# Altium footprint library Connector.PcbLib: 170 footprints (part 11 of 11)
Each footprint in its own frame and in the unit in brackets; x right, y up, seen from the top. Pads: shape width x height; smd on the part's side, far side on the other; paste and mask are expansions set on the pad; w line width, h text height; cw(c..) or ccw(c..) is an arc to the next point about the centre after c.
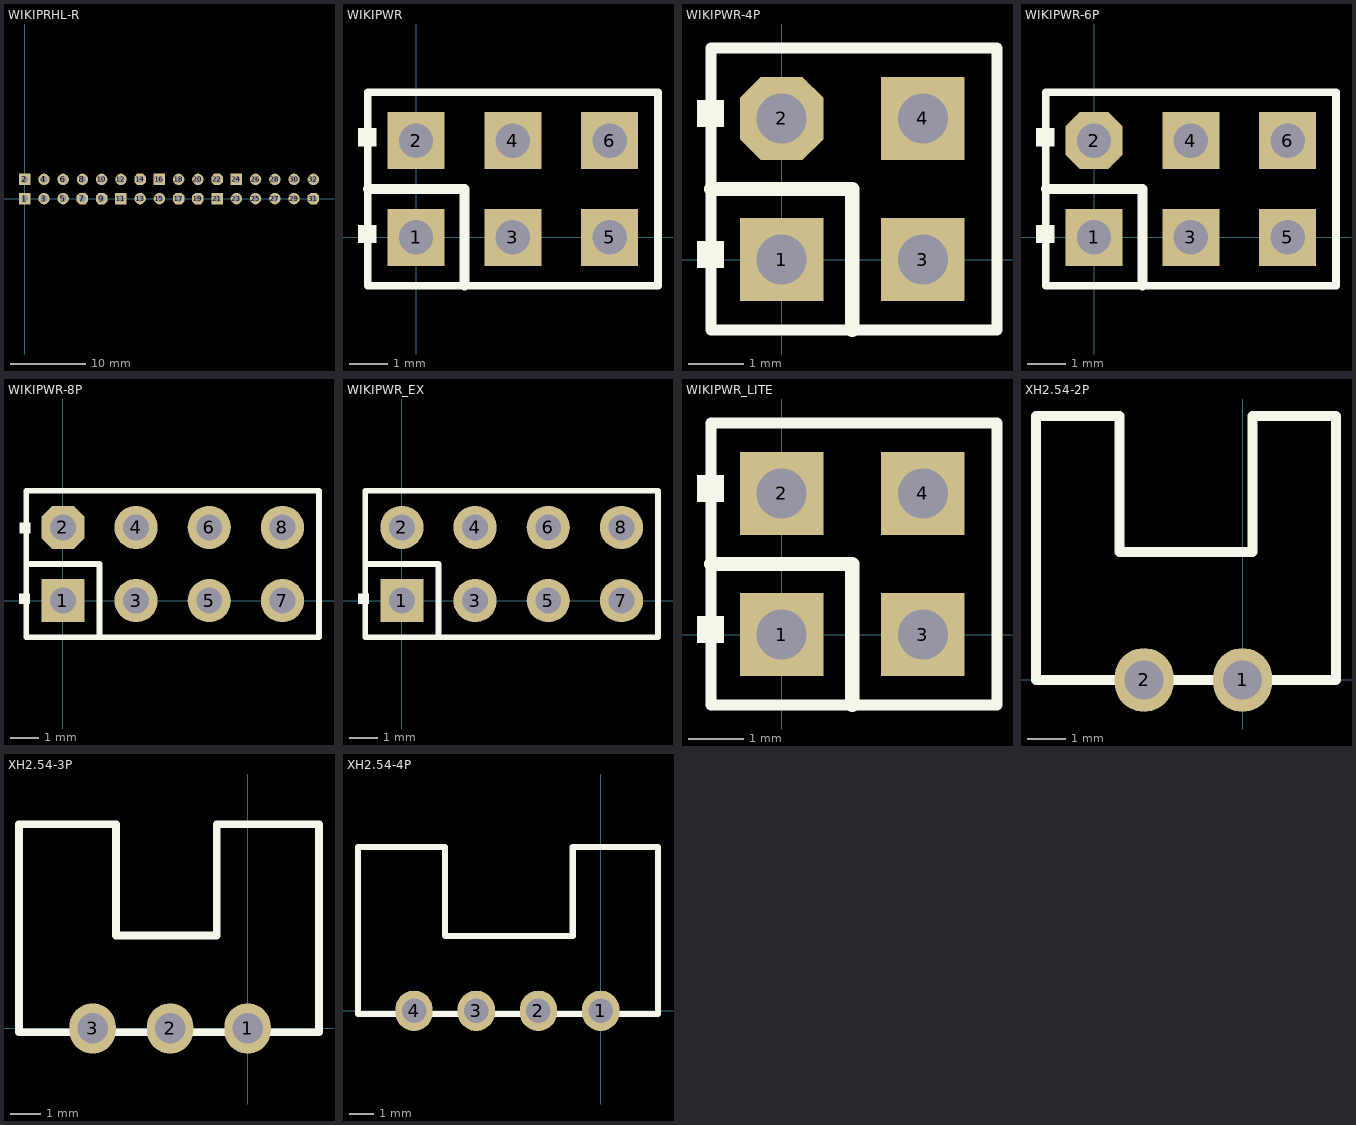
[diagram p10: the footprints below, top view; thin cyan lines are the x and y axes]

## WIKIPRHL-R [mm] "Connector; Header; 16x2 Position"
pads (32):
  rect 1.5x1.5 hole 0.9: 1(0,0) 2(0,2.54) 11(12.7,0) 16(17.78,2.54) 21(25.4,0) 24(27.94,2.54)
  round 1.5 hole 0.9: 3(2.54,0) 4(2.54,2.54) 5(5.08,0) 6(5.08,2.54) 8(7.62,2.54) 10(10.16,2.54) 12(12.7,2.54) 13(15.24,0) 15(17.78,0) 18(20.32,2.54) 20(22.86,2.54) 23(27.94,0) 25(30.48,0) 26(30.48,2.54) 27(33.02,0) 28(33.02,2.54) 29(35.56,0) 30(35.56,2.54) 32(38.1,2.54)
  oct 1.5x1.5 hole 0.9: 7(7.62,0) 9(10.16,0) 14(15.24,2.54) 17(20.32,0) 19(22.86,0) 22(25.4,2.54) 31(38.1,0)

## WIKIPWR [mm] "Connector; Header; 3x2 Position"
pads (6):
  rect 1.5x1.5 hole 0.9: 1(0,0) 2(0,2.54) 3(2.54,0) 4(2.54,2.54) 5(5.08,0) 6(5.08,2.54)
Top Overlay:
  rectangle: -1.524,2.388 -1.041,2.87
  rectangle: -1.524,-0.152 -1.041,0.33
  lines w0.2: 1.482,-1.27 6.35,-1.27 ; 6.35,-1.27 6.35,3.81 -1.27,3.81 -1.27,-1.27 6.35,-1.27
  lines w0.254: -1.27,1.27 1.27,1.27 1.27,-1.27

## WIKIPWR-4P [mm] "Connector; Header; 2x2 Position"
pads (4):
  rect 1.5x1.5 hole 0.9: 1(0,0) 3(2.54,0) 4(2.54,2.54)
  oct 1.5x1.5 hole 0.9: 2(0,2.54)
Top Overlay:
  rectangle: -1.524,2.388 -1.041,2.87
  rectangle: -1.524,-0.152 -1.041,0.33
  lines w0.2: 1.482,-1.27 3.875,-1.27 ; 3.875,-1.27 3.875,3.81 -1.27,3.81 -1.27,-1.27 3.875,-1.27
  lines w0.254: -1.27,1.27 1.27,1.27 1.27,-1.27
3D body: height 8.51, standoff -3.68, extent -1.302,1.199 1.238,4.119
3D body: height 8.51, standoff -3.68, extent -1.302,-1.601 1.238,1.319
3D body: height 8.51, standoff -3.68, extent 1.198,1.199 3.738,4.119
3D body: height 8.51, standoff -3.68, extent 1.198,-1.601 3.738,1.319

## WIKIPWR-6P [mm] "Connector; Header; 3x2 Position"
pads (6):
  rect 1.5x1.5 hole 0.9: 1(0,0) 3(2.54,0) 4(2.54,2.54) 5(5.08,0) 6(5.08,2.54)
  oct 1.5x1.5 hole 0.9: 2(0,2.54)
Top Overlay:
  rectangle: -1.524,-0.152 -1.041,0.33
  rectangle: -1.524,2.388 -1.041,2.87
  lines w0.2: 1.482,-1.27 6.35,-1.27 ; 6.35,-1.27 -1.27,-1.27 -1.27,3.81 6.35,3.81 6.35,-1.27
  lines w0.254: -1.27,1.27 1.27,1.27 1.27,-1.27
3D body: height 8.51, standoff -3.68, extent -1.207,1.099 1.333,4.019
3D body: height 8.51, standoff -3.68, extent 1.333,1.099 3.873,4.019
3D body: height 8.51, standoff -3.68, extent 3.873,1.099 6.413,4.019
3D body: height 8.51, standoff -3.68, extent 3.898,-1.651 6.438,1.269
3D body: height 8.51, standoff -3.68, extent 1.358,-1.651 3.898,1.269
3D body: height 8.51, standoff -3.68, extent -1.182,-1.651 1.358,1.269

## WIKIPWR-8P [mm] "Connector; Header; 4x2 Position"
pads (8):
  rect 1.5x1.5 hole 0.9: 1(0,0)
  oct 1.5x1.5 hole 0.9: 2(0,2.54)
  round 1.5 hole 0.9: 3(2.54,0) 4(2.54,2.54) 5(5.08,0) 6(5.08,2.54) 7(7.62,0) 8(7.62,2.54)
Top Overlay:
  rectangle: -1.524,-0.127 -1.143,0.254
  rectangle: -1.499,2.323 -1.118,2.704
  lines w0.2: -1.27,1.27 1.27,1.27 1.27,-1.27 ; -1.27,-1.27 8.89,-1.27 8.89,3.81 -1.27,3.81 -1.27,-1.27
3D body: height 8.51, standoff -3.68, extent 3.798,-1.651 6.338,1.269
3D body: height 8.51, standoff -3.68, extent 1.258,-1.651 3.798,1.269
3D body: height 8.51, standoff -3.68, extent -1.282,-1.651 1.258,1.269
3D body: height 8.51, standoff -3.68, extent 3.798,1.149 6.338,4.069
3D body: height 8.51, standoff -3.68, extent 1.258,1.149 3.798,4.069
3D body: height 8.51, standoff -3.68, extent -1.282,1.149 1.258,4.069
3D body: height 8.51, standoff -3.68, extent 6.273,1.149 8.813,4.069
3D body: height 8.51, standoff -3.68, extent 6.273,-1.651 8.813,1.269

## WIKIPWR_EX [mm] "Connector; Header; 4x2 Position"
pads (8):
  rect 1.5x1.5 hole 0.9: 1(0,0)
  round 1.5 hole 0.9: 2(0,2.54) 3(2.54,0) 4(2.54,2.54) 5(5.08,0) 6(5.08,2.54) 7(7.62,0) 8(7.62,2.54)
Top Overlay:
  rectangle: -1.524,-0.127 -1.143,0.254
  lines w0.2: -1.27,1.27 1.27,1.27 1.27,-1.27 ; -1.27,-1.27 8.89,-1.27 8.89,3.81 -1.27,3.81 -1.27,-1.27

## WIKIPWR_LITE [mm] "Connector; Header; 2x2 Position"
pads (4):
  rect 1.5x1.5 hole 0.9: 1(0,0) 2(0,2.54) 3(2.54,0) 4(2.54,2.54)
Top Overlay:
  rectangle: -1.524,2.388 -1.041,2.87
  rectangle: -1.524,-0.152 -1.041,0.33
  lines w0.2: 1.482,-1.27 3.875,-1.27 ; 3.875,-1.27 3.875,3.81 -1.27,3.81 -1.27,-1.27 3.875,-1.27
  lines w0.254: -1.27,1.27 1.27,1.27 1.27,-1.27

## XH2.54-2P [mil]
pads (2):
  oval 60x65 hole 39.37: 1(0,0) 2(-100.1,0)
Top Overlay:
  lines w10: -210,0 -210,268.3 -125,268.3 -125,130 10,130 10,268.3 61.2,268.3 95,268.3 95,0 -210,0

## XH2.54-3P [mil]
pads (3):
  oval 60x65 hole 39.37: 1(0,0) 2(-100.1,0) 3(-200,0)
Top Overlay:
  lines w10: -295,-5 -295,263.3 -170,263.3 -170,120 -40,120 -40,263.3 61.2,263.3 92,263.3 92,-5 -295,-5

## XH2.54-4P [mil]
pads (4):
  oval 60x65 hole 39.37: 1(0,0) 2(-100.1,0) 3(-200,0) 4(-300,0)
Top Overlay:
  lines w10: -390,-5 -390,263.3 -250,263.3 -250,120 -45,120 -45,263.3 61.2,263.3 92,263.3 92,-5 -390,-5